# Altium footprint library CONN1X7X.1.PcbLib: 1 footprints
Each footprint in its own frame and in the unit in brackets; x right, y up, seen from the top. Pads: shape width x height; smd on the part's side, far side on the other; paste and mask are expansions set on the pad; w line width, h text height; cw(c..) or ccw(c..) is an arc to the next point about the centre after c.
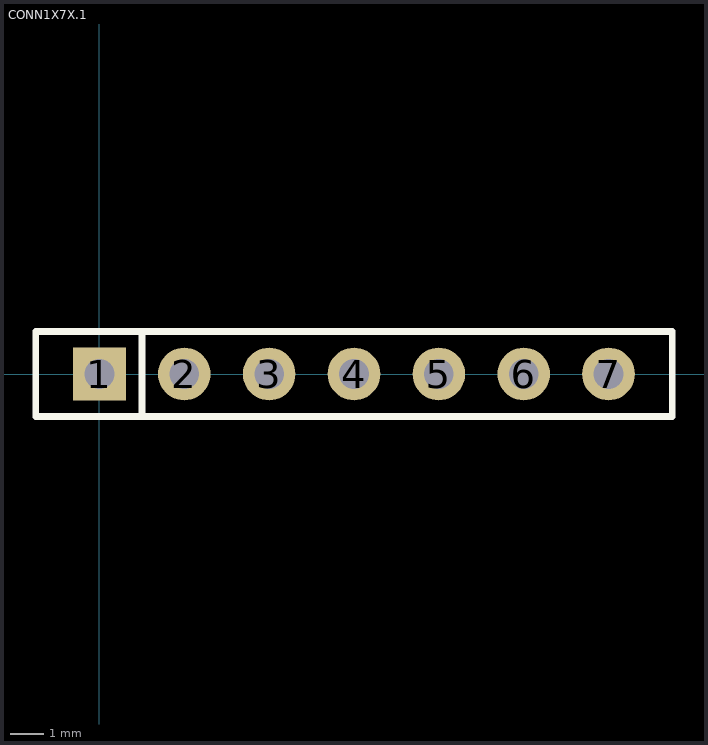
[diagram p0: the footprint, top view; thin cyan lines are the x and y axes]

## CONN1X7X.1 [mil]
height 390
pads (7):
  rect 62x62 hole 35: 1(0,0)
  round 62 hole 35: 2(100,0) 3(200,0) 4(300,0) 5(400,0) 6(500,0) 7(600,0)
TopOverlay:
  lines w8: 50,-50 50,50 ; -75,-50 -75,50 675,50 675,-50 -75,-50
Mechanical4:
  text ".358" at 0,0 h1